# Altium schematic symbol library TPCS.SchLib: 6 symbols
Pins are listed as number, name and electrical type; pins without a type are passive.

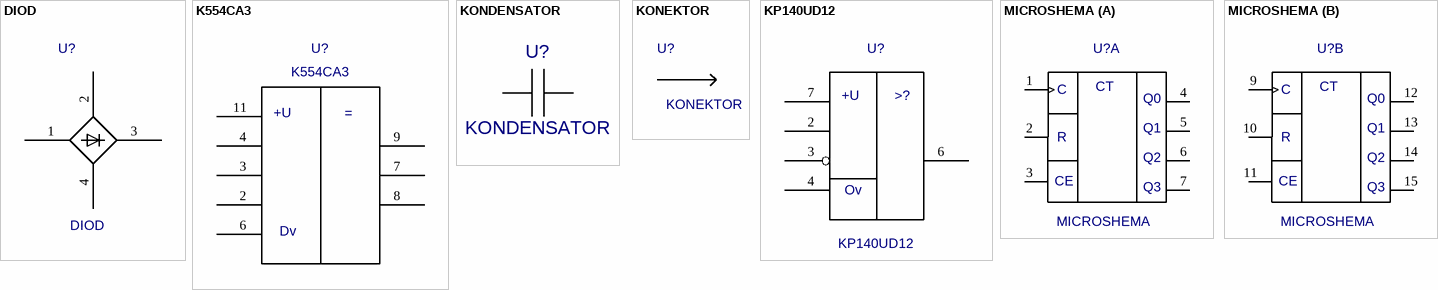
[diagram p0: symbols DIOD to MICROSHEMA]

## DIOD
designator U?
Value: *
footprint DIODDIODPrimary
pins: 1, 2, 3, 4

## K554CA3
designator U?
Value: *
footprint MIKROSHEMAK554CA3Primary
pins: 2, 3, 4, 6, 7, 8, 9, 11
text: +U; Dv

## KONDENSATOR
designator U?
Value: *
footprint KONDENSATOR
pins: 1 0, 2 0

## KONEKTOR
designator U?
Value: *
footprint CONTACTKONEKTORPrimary
pins: 0

## KP140UD12
designator U?
Value: *
footprint MIKROSHEMAKP140UD12Primary
pins: 2, 3, 4, 6, 7
text: +U; >?; Ov

## MICROSHEMA
designator U?
Value: *
footprint MIKROSHEMA
pins on every part: 8 GND (power) hidden, 16 Vcc (power) hidden
part A pins: 1 C, 2 R, 3 CE, 4 Q0, 5 Q1, 6 Q2, 7 Q3
part B pins: 9 C, 10 R, 11 CE, 12 Q0, 13 Q1, 14 Q2, 15 Q3
part A text: CT
part B text: CT